# EAGLE library part 502598-3993 (library QUAD_Connectors_Symbols)
39 Pin Molex FFC/FPC 0.3mm Source: Datasheet <https://componentsearchengine.com/Datasheets/1/502598-3993.pdf>
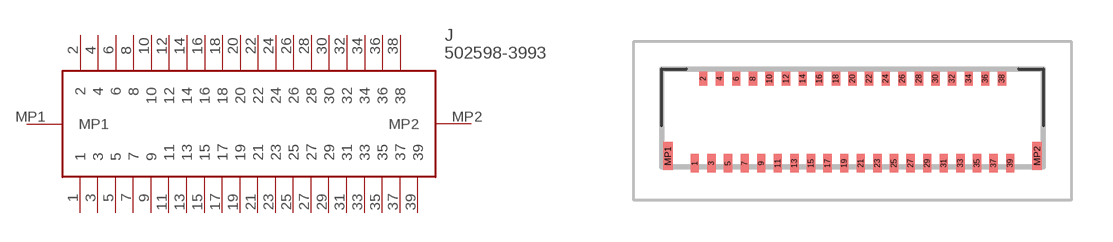
[diagram p0: symbol with the pads of 5025983993; footprint 5025983993]

Designator prefix J

## 502598-3993 (DESCRIPTION: FFC & FPC Connectors 0.3 FPC Bck Flip Hsg Assy39CktEmbsTpPkg; HEIGHT: 1.63mm; MANUFACTURER_NAME: Molex; MANUFACTURER_PART_NUMBER: 502598-3993; MOUSER_PART_NUMBER: 538-502598-3993; MOUSER_PRICE-STOCK: https://www.mouser.com/Search/Refine.aspx?Keyword=538-502598-3993)  [5025983993]
1  1
2  2
3  3
4  4
5  5
6  6
7  7
8  8
9  9
10  10
11  11
12  12
13  13
14  14
15  15
16  16
17  17
18  18
19  19
20  20
21  21
22  22
23  23
24  24
25  25
26  26
27  27
28  28
29  29
30  30
31  31
32  32
33  33
34  34
35  35
36  36
37  37
38  38
39  39
MP1  MP1
MP2  MP2

## Footprint 5025983993 (pad centres in mm)
502598-3993-2
smd 0.3 x 0.67: 1 -5.7,-1.64; 3 -5.1,-1.64; 5 -4.5,-1.64; 7 -3.899,-1.64; 9 -3.3,-1.64; 11 -2.7,-1.64; 13 -2.1,-1.64; 15 -1.5,-1.64; 17 -0.9,-1.64; 19 -0.3,-1.64; 21 0.3,-1.64; 23 0.9,-1.64; 25 1.5,-1.64; 27 2.1,-1.64; 29 2.7,-1.64; 31 3.3,-1.64; 33 3.9,-1.64; 35 4.5,-1.64; 37 5.1,-1.64; 39 5.7,-1.64
smd 0.3 x 0.5: 2 -5.399,1.425; 4 -4.8,1.425; 6 -4.2,1.425; 8 -3.6,1.425; 10 -3,1.425; 12 -2.399,1.425; 14 -1.8,1.425; 16 -1.2,1.425; 18 -0.6,1.425; 20 0,1.425; 22 0.6,1.425; 24 1.2,1.425; 26 1.8,1.425; 28 2.4,1.425; 30 3,1.425; 32 3.6,1.425; 34 4.2,1.425; 36 4.8,1.425; 38 5.4,1.425
smd 0.35 x 1: MP1 -6.675,-1.375; MP2 6.676,-1.375